# Altium schematic symbol library Other.SchLib: 4 symbols
Pins are listed as number, name and electrical type; pins without a type are passive.

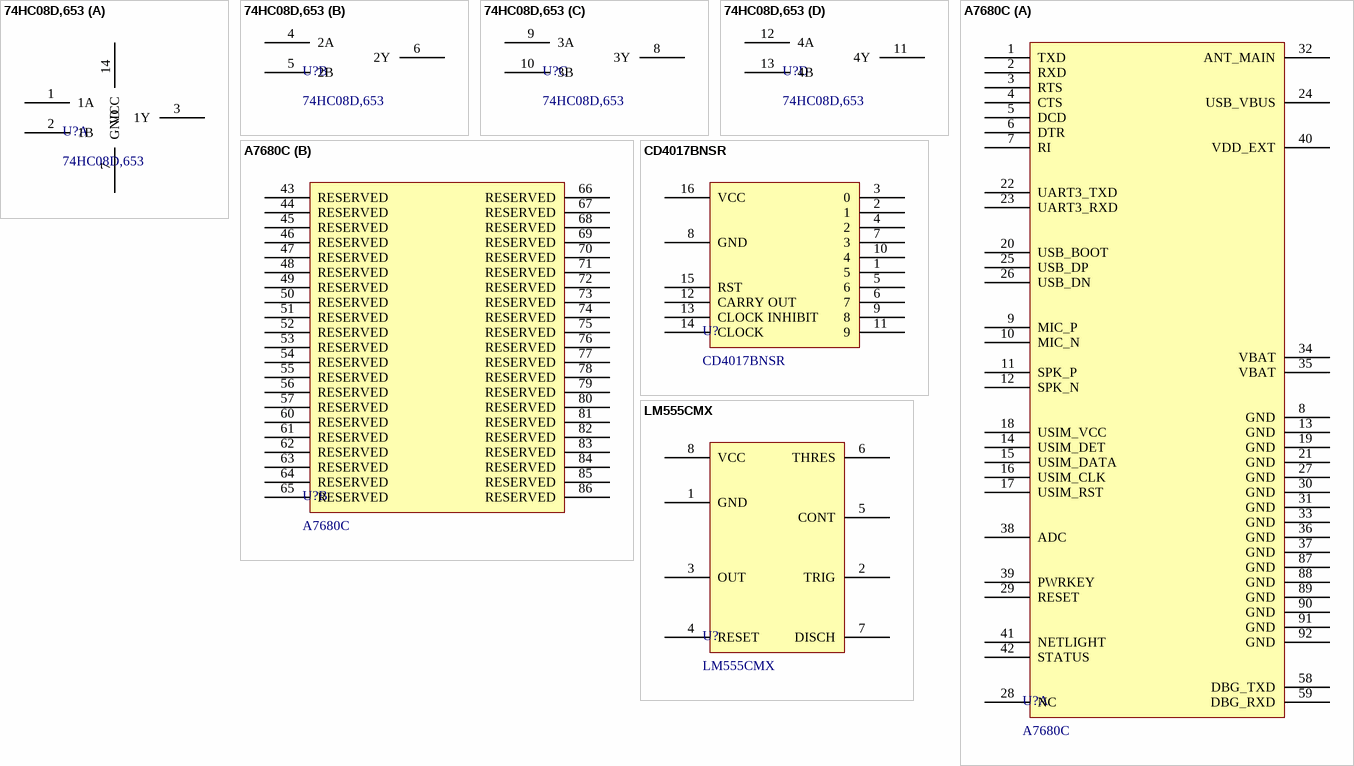
[diagram p0: symbols 74HC08D,653 to LM555CMX]

## 74HC08D,653
designator U?
Logic Gates 74HC08D/SOT108/SO14; Manufacturer: Nexperia; Pad count: 14; Supply Voltage - Max: 2 V; Supply Voltage - Min: 6 V; Logic Function: AND; Number of Gates: 4 Gate; Number of Input Lines: 8 Input; Number of Output Lines: 4 Output; Propagation Delay Time: 7 ns; Active: Active; ComponentLink1Description: Datasheet; ComponentLink1URL: https://www.mouser.com/datasheet/2/916/74HC_HCT08-2937369.pdf; LCSC Part #: N/A; Manufacturer Part Number: 74HC08D,653; Mount: SMD/SMT; Operating Temperature Max: + 125 C; Operating Temperature Min: - 40 C; Package / Case: SOIC-14; Packaging: Tape and Reel; Supplier 1: Mouser; Supplier 1 Part Number: 771-74HC08D-T; Supplier 1 URL: https://www.mouser.com/ProductDetail/Nexperia/74HC08D653?qs=P62ublwmbi%2FQCxm29EB%2FyA%3D%3D; Supplier 2: Digi-Key; Supplier 2 Part Number: N/A; Supplier 2 URL: N/A; Supplier 3: thegioiic; Supplier 3 Part Number: 74HC08D,652; Supplier 3 URL: https://www.thegioiic.com/74hc08d-652-ic-quad-2-input-and-logic-gate-14-soic; Value: 74HC08D,653
footprint 74HC08D,653 (SOIC, 14-Leads, Body 8.65x3.90mm, Pitch 1.27mm, IPC Medium Density)
part A pins: 1 1A, 2 1B, 3 1Y, 7 GND, 14 VCC
part B pins: 4 2A, 5 2B, 6 2Y
part C pins: 8 3Y, 9 3A, 10 3B
part D pins: 11 4Y, 12 4A, 13 4B

## A7680C
designator U?
LCC-LAG-92_L17.6-W15.7 2G/3G/4G/5G Modules ROHS; Manufacturer: SIMCom Wireless Solutions; Manufacturer Part Number: A7680C-LANS; Pad count: 92; Supply Voltage - Max: 3.4 V; Supply Voltage - Min: 4.2 V; Transmit power: 23dBm +/- 2.7dB; Short Messeage Service: MO, MT, CB, TEXT, PDU; Antenna interface: LTE Antenna Interface; Active: Active; ComponentLink1Description: Datasheet; ComponentLink1URL: https://cdn.tdlogy.com/public/Datasheet/4G-5G/A7680C_HardwareReferenceDesign.pdf; LCSC Part #: C5354934; Mount: SMD/SMT; Operating Temperature Max: + 80 C; Operating Temperature Min: - 30 C; Package / Case: SOIC-16; Packaging: Tape and Reel; Supplier 1: Mouser; Supplier 1 Part Number: N/A; Supplier 1 URL: N/A; Supplier 2: Digi-Key; Supplier 2 Part Number: N/A; Supplier 2 URL: N/A; Supplier 3: thegioiic; Supplier 3 Part Number: N/A; Supplier 3 URL: N/A; Value: A7680C; Downlink: 10Mbps; Uplink: 5Mbps
footprint A7860C (Footprint not found)
part A pins: 1 TXD, 2 RXD, 3 RTS, 4 CTS, 5 DCD, 6 DTR, 7 RI, 8 GND, 9 MIC_P, 10 MIC_N, 11 SPK_P, 12 SPK_N, 13 GND, 14 USIM_DET, 15 USIM_DATA, 16 USIM_CLK, 17 USIM_RST, 18 USIM_VCC, 19 GND, 20 USB_BOOT, 21 GND, 22 UART3_TXD, 23 UART3_RXD, 24 USB_VBUS, 25 USB_DP, 26 USB_DN, 27 GND, 28 NC, 29 RESET, 30 GND, 31 GND, 32 ANT_MAIN, 33 GND, 34 VBAT, 35 VBAT, 36 GND, 37 GND, 38 ADC, 39 PWRKEY, 40 VDD_EXT, 41 NETLIGHT, 42 STATUS, 58 DBG_TXD, 59 DBG_RXD, 87 GND, 88 GND, 89 GND, 90 GND, 91 GND, 92 GND
part B pins: 43 RESERVED, 44 RESERVED, 45 RESERVED, 46 RESERVED, 47 RESERVED, 48 RESERVED, 49 RESERVED, 50 RESERVED, 51 RESERVED, 52 RESERVED, 53 RESERVED, 54 RESERVED, 55 RESERVED, 56 RESERVED, 57 RESERVED, 60 RESERVED, 61 RESERVED, 62 RESERVED, 63 RESERVED, 64 RESERVED, 65 RESERVED, 66 RESERVED, 67 RESERVED, 68 RESERVED, 69 RESERVED, 70 RESERVED, 71 RESERVED, 72 RESERVED, 73 RESERVED, 74 RESERVED, 75 RESERVED, 76 RESERVED, 77 RESERVED, 78 RESERVED, 79 RESERVED, 80 RESERVED, 81 RESERVED, 82 RESERVED, 83 RESERVED, 84 RESERVED, 85 RESERVED, 86 RESERVED

## CD4017BNSR
designator U?
Counter ICs CMOS Decade Counter; Manufacturer: Texas Instruments; Pad count: 16; Supply Voltage - Max: 3 V; Supply Voltage - Min: 18 V; Counting Method: Synchronous; Counting Sequence: Up; Number of Bits: 10 bit; Active: Active; ComponentLink1Description: Datasheet; ComponentLink1URL: https://www.ti.com/lit/gpn/lm555; LCSC Part #: N/A; Manufacturer Part Number: CD4017BNSR; Mount: SMD/SMT; Operating Temperature Max: + 125 C; Operating Temperature Min: - 55 C; Package / Case: SOIC-16; Packaging: Tape and Reel; Supplier 1: Mouser; Supplier 1 Part Number: 595-CD4017BNSR; Supplier 1 URL: https://www.mouser.com/ProductDetail/Texas-Instruments/CD4017BNSR?qs=afYny40WCj0TlPXA7Qbixg%3D%3D; Supplier 2: Digi-Key; Supplier 2 Part Number: N/A; Supplier 2 URL: N/A; Supplier 3: thegioiic; Supplier 3 Part Number: CD4017BM; Supplier 3 URL: https://www.thegioiic.com/cd4017bm-ic-decade-counter-5-5mhz-16-soic; Value: CD4017BNSR; Counter Type: Decade
footprint CD4017BNSR (SOIC, 16-Leads, Body 9.90x3.90mm, Pitch 1.27mm, IPC Medium Density)
pins: 1 5, 2 1, 3 0, 4 2, 5 6, 6 7, 7 3, 8 GND, 9 8, 10 4, 11 9, 12 CARRY OUT, 13 CLOCK INHIBIT, 14 CLOCK, 15 RST, 16 VCC

## LM555CMX
designator U?
Timers & Support Products TIMER; Manufacturer: Texas Instruments; Manufacturer Part Number: LM555CMX/NOPB; Pad count: 8; Supply Voltage - Max: 4.5 V; Supply Voltage - Min: 16 V; Number of Internal Timers: 1; Power Dissipation: 1.18 W; Active: Active; ComponentLink1Description: Datasheet; ComponentLink1URL: https://www.ti.com/lit/gpn/lm555; LCSC Part #: N/A; Mount: SMD/SMT; Operating Temperature Max: + 85 C; Operating Temperature Min: - 40 C; Package / Case: SOIC-8; Packaging: Tape and Reel; Supplier 1: Mouser; Supplier 1 Part Number: 926-LM555CMX/NOPB; Supplier 1 URL: https://www.mouser.com/ProductDetail/Texas-Instruments/LM555CMX-NOPB?qs=QbsRYf82W3GHnQuoL%2FmIoA%3D%3D; Supplier 2: Digi-Key; Supplier 2 Part Number: N/A; Supplier 2 URL: N/A; Supplier 3: thegioiic; Supplier 3 Part Number: NE555D; Supplier 3 URL: https://www.thegioiic.com/ne555d-ic-timer-circuit-100khz-8-soic; Value: LM555CMX
footprint LM555CMX (Footprint not found)
pins: 1 GND, 2 TRIG, 3 OUT, 4 RESET, 5 CONT, 6 THRES, 7 DISCH, 8 VCC